# EAGLE library part WM-2412 (library DodoLcd)
display grafico 240 x 128
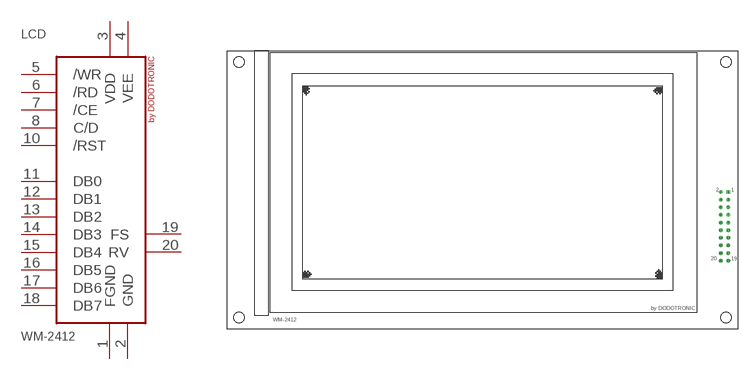
[diagram p8: symbol with the pads of WM-2412; footprint WM-2412]

Designator prefix LCD

## WM-2412  [WM-2412]
1  FGND
2  GND
3  VDD
4  VEE
5  /WR
6  /RD
7  /CE
8  C/D
10  /RST
11  DB0
12  DB1
13  DB2
14  DB3
15  DB4
16  DB5
17  DB6
18  DB7
19  FS
20  RV

## Footprint WM-2412 (pad centres in mm)
display grafico 240 x 128
drill 0.8 square: 1 166.751,45.72
drill 0.8 round: 2 164.211,45.72; 3 166.751,43.18; 4 164.211,43.18; 5 166.751,40.64; 6 164.211,40.64; 7 166.751,38.1; 8 164.211,38.1; 9 166.751,35.56; 10 164.211,35.56; 11 166.751,33.02; 12 164.211,33.02; 13 166.751,30.48; 14 164.211,30.48; 15 166.751,27.94; 16 164.211,27.94; 17 166.751,25.4; 18 164.211,25.4; 19 166.751,22.86; 20 164.211,22.86
hole 3.5 at 4,3.9
hole 3.5 at 166,3.9
hole 3.5 at 166,88.9
hole 3.5 at 4,88.9